# EAGLE library part 5600ВВ3Т (library transceivers)
АЕНВ.431290.084 ТУ 5600ВВ3Т - четырехпортовый коммутатор/концетратор сетей по протоколу IEEE 802.3/Ethernet 10/100 Мбит/с. Производитель: АО ПКК "Миландр", г. Зеленоград, Москва. Технические условия: АЕНВ.431290.084 ТУ
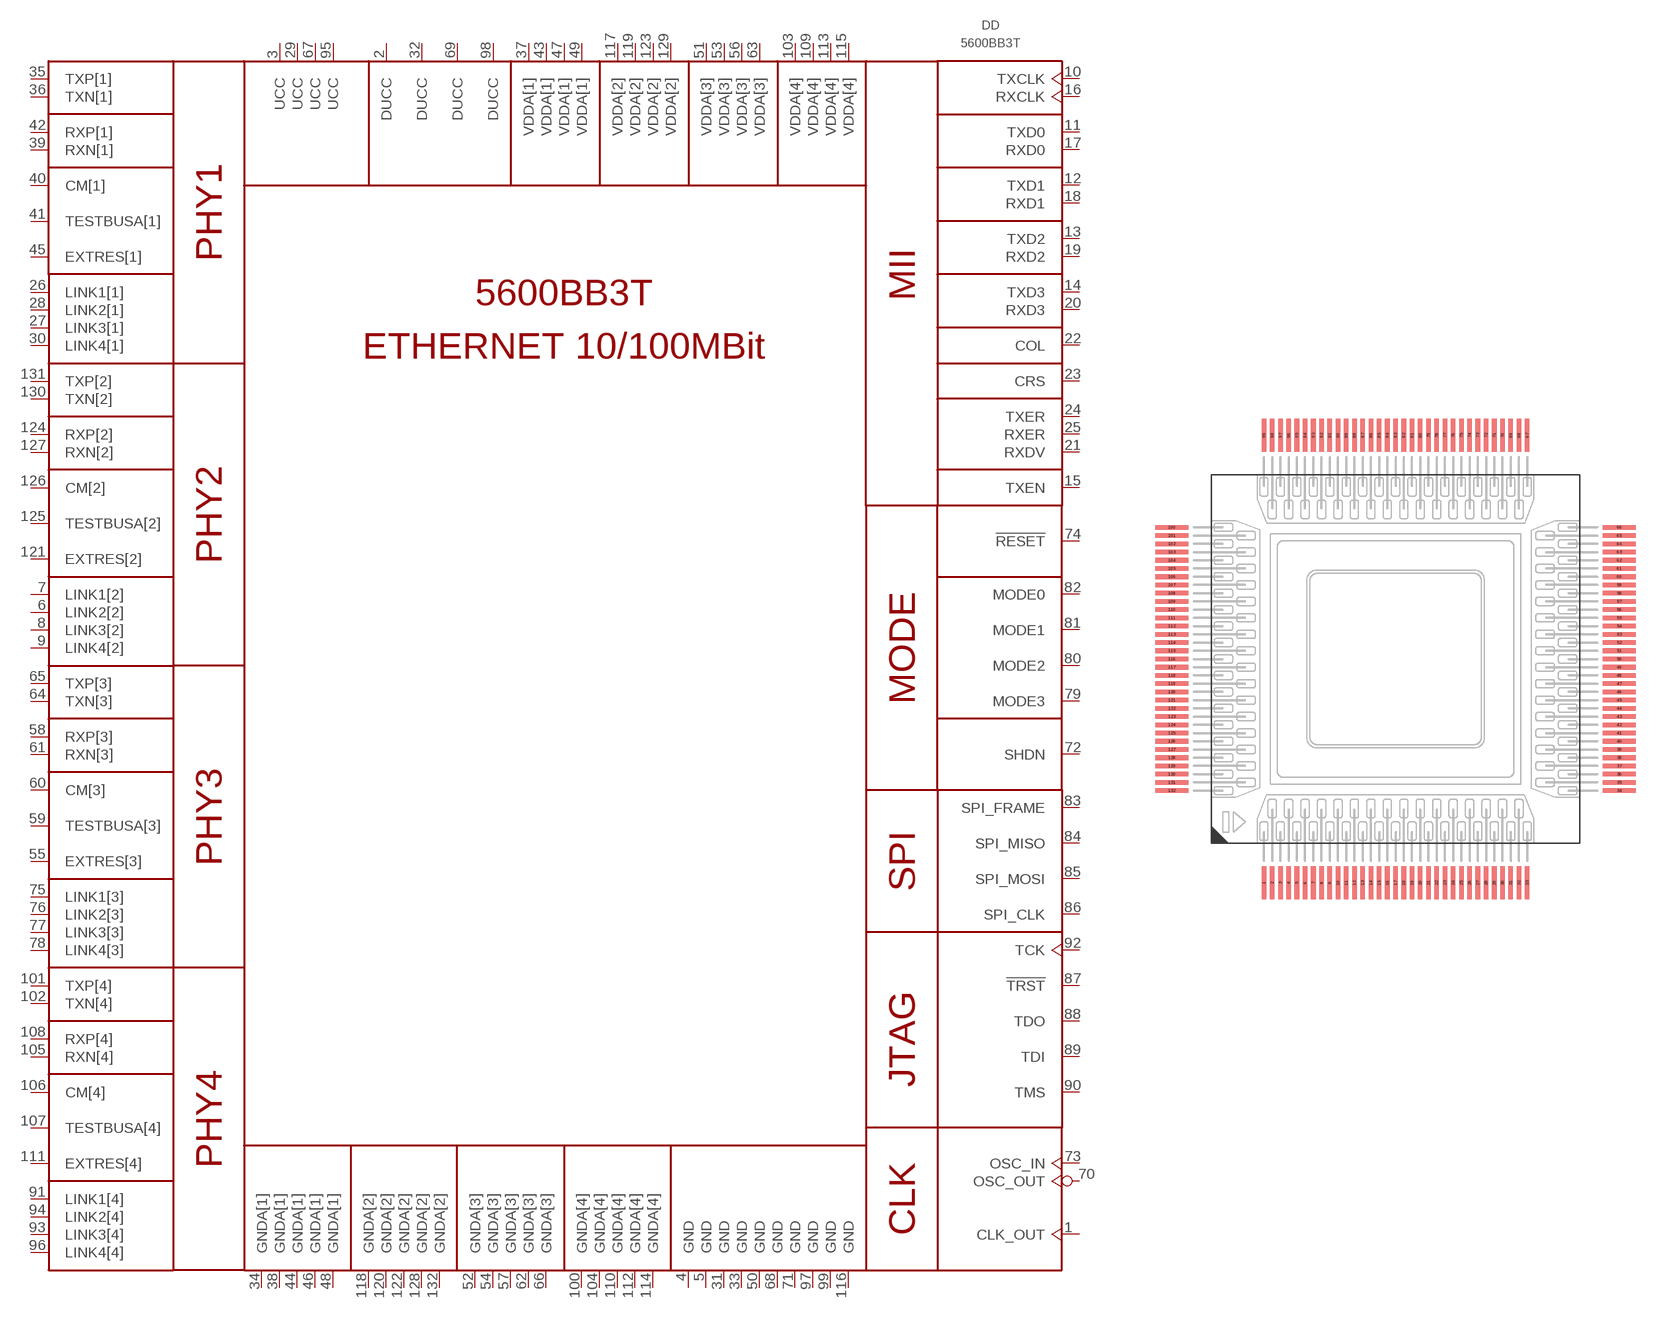
[diagram p7: symbol with the pads of 4229.132-3; footprint 4229.132-3]

Designator prefix DD

## 5600ВВ3Т  [4229.132-3]
1  CLK_OUT  out
2  DUCC  pwr
3  UCC  pwr
4  GND  pwr
5  GND  pwr
6  LINK2[2]  out
7  LINK1[2]  out
8  LINK3[2]  out
9  LINK4[2]  out
10  TXCLK  in
11  TXD0  out
12  TXD1  out
13  TXD2  out
14  TXD3  out
15  TXEN  out
16  RXCLK  in
17  RXD0  in
18  RXD1  in
19  RXD2  in
20  RXD3  in
21  RXDV  in
22  COL  in
23  CRS  in
24  TXER  out
25  RXER  in
26  LINK1[1]  out
27  LINK3[1]  out
28  LINK2[1]  out
29  UCC  pwr
30  LINK4[1]  out
31  GND  pwr
32  DUCC  pwr
33  GND  pwr
34  GNDA[1]  pwr
35  TXP[1]  out
36  TXN[1]  out
37  VDDA[1]  pwr
38  GNDA[1]  pwr
39  RXN[1]  in
40  CM[1]  out
41  TESTBUSA[1]
42  RXP[1]  in
43  VDDA[1]  pwr
44  GNDA[1]  pwr
45  EXTRES[1]
46  GNDA[1]  pwr
47  VDDA[1]  pwr
48  GNDA[1]  pwr
49  VDDA[1]  pwr
50  GND  pwr
51  VDDA[3]  pwr
52  GNDA[3]  pwr
53  VDDA[3]  pwr
54  GNDA[3]  pwr
55  EXTRES[3]
56  VDDA[3]  pwr
57  GNDA[3]  pwr
58  RXP[3]  in
59  TESTBUSA[3]
60  CM[3]  out
61  RXN[3]  in
62  GNDA[3]  pwr
63  VDDA[3]  pwr
64  TXN[3]  out
65  TXP[3]  out
66  GNDA[3]  pwr
67  UCC  pwr
68  GND  pwr
69  DUCC  pwr
70  OSC_OUT  out
71  GND  pwr
72  SHDN  in
73  OSC_IN  in
74  !RESET  in
75  LINK1[3]  out
76  LINK2[3]  out
77  LINK3[3]  out
78  LINK4[3]  out
79  MODE3  in
80  MODE2  in
81  MODE1  in
82  MODE0  in
83  SPI_FRAME  in
84  SPI_MISO  out
85  SPI_MOSI  in
86  SPI_CLK  in
87  !TRST  in
88  TDO  out
89  TDI  in
90  TMS  in
91  LINK1[4]  out
92  TCK  in
93  LINK3[4]  out
94  LINK2[4]  out
95  UCC  pwr
96  LINK4[4]  out
97  GND  pwr
98  DUCC  pwr
99  GND  pwr
100  GNDA[4]  pwr
101  TXP[4]  out
102  TXN[4]  out
103  VDDA[4]  pwr
104  GNDA[4]  pwr
105  RXN[4]  in
106  CM[4]  out
107  TESTBUSA[4]
108  RXP[4]  in
109  VDDA[4]  pwr
110  GNDA[4]  pwr
111  EXTRES[4]
112  GNDA[4]  pwr
113  VDDA[4]  pwr
114  GNDA[4]  pwr
115  VDDA[4]  pwr
116  GND  pwr
117  VDDA[2]  pwr
118  GNDA[2]  pwr
119  VDDA[2]  pwr
120  GNDA[2]  pwr
121  EXTRES[2]
122  GNDA[2]  pwr
123  VDDA[2]  pwr
124  RXP[2]  in
125  TESTBUSA[2]
126  CM[2]  out
127  RXN[2]  in
128  GNDA[2]  pwr
129  VDDA[2]  pwr
130  TXN[2]  out
131  TXP[2]  out
132  GNDA[2]  pwr

## Footprint 4229.132-3 (pad centres in mm)
smd 0.35 x 2.5: 1 -10,-17; 2 -9.375,-17; 3 -8.75,-17; 4 -8.125,-17; 5 -7.5,-17; 6 -6.875,-17; 7 -6.25,-17; 8 -5.625,-17; 9 -5,-17; 10 -4.375,-17; 11 -3.75,-17; 12 -3.125,-17; 13 -2.5,-17; 14 -1.875,-17; 15 -1.25,-17; 16 -0.625,-17; 17 0,-17; 18 0.625,-17; 19 1.25,-17; 20 1.875,-17; 21 2.5,-17; 22 3.125,-17; 23 3.75,-17; 24 4.375,-17; 25 5,-17; 26 5.625,-17; 27 6.25,-17; 28 6.875,-17; 29 7.5,-17; 30 8.125,-17; 31 8.75,-17; 32 9.375,-17; 33 10,-17; 67 10,17; 68 9.375,17; 69 8.75,17; 70 8.125,17; 71 7.5,17; 72 6.875,17; 73 6.25,17; 74 5.625,17; 75 5,17; 76 4.375,17; 77 3.75,17; 78 3.125,17; 79 2.5,17; 80 1.875,17; 81 1.25,17; 82 0.625,17; 83 0,17; 84 -0.625,17; 85 -1.25,17; 86 -1.875,17; 87 -2.5,17; 88 -3.125,17; 89 -3.75,17; 90 -4.375,17; 91 -5,17; 92 -5.625,17; 93 -6.25,17; 94 -6.875,17; 95 -7.5,17; 96 -8.125,17; 97 -8.75,17; 98 -9.375,17; 99 -10,17
smd 2.5 x 0.35: 34 17,-10; 35 17,-9.375; 36 17,-8.75; 37 17,-8.125; 38 17,-7.5; 39 17,-6.875; 40 17,-6.25; 41 17,-5.625; 42 17,-5; 43 17,-4.375; 44 17,-3.75; 45 17,-3.125; 46 17,-2.5; 47 17,-1.875; 48 17,-1.25; 49 17,-0.625; 50 17,0; 51 17,0.625; 52 17,1.25; 53 17,1.875; 54 17,2.5; 55 17,3.125; 56 17,3.75; 57 17,4.375; 58 17,5; 59 17,5.625; 60 17,6.25; 61 17,6.875; 62 17,7.5; 63 17,8.125; 64 17,8.75; 65 17,9.375; 66 17,10; 100 -17,10; 101 -17,9.375; 102 -17,8.75; 103 -17,8.125; 104 -17,7.5; 105 -17,6.875; 106 -17,6.25; 107 -17,5.625; 108 -17,5; 109 -17,4.375; 110 -17,3.75; 111 -17,3.125; 112 -17,2.5; 113 -17,1.875; 114 -17,1.25; 115 -17,0.625; 116 -17,0; 117 -17,-0.625; 118 -17,-1.25; 119 -17,-1.875; 120 -17,-2.5; 121 -17,-3.125; 122 -17,-3.75; 123 -17,-4.375; 124 -17,-5; 125 -17,-5.625; 126 -17,-6.25; 127 -17,-6.875; 128 -17,-7.5; 129 -17,-8.125; 130 -17,-8.75; 131 -17,-9.375; 132 -17,-10